# EAGLE library part SF2159E (library NewSDR)
RFM 974 MHz SAW Filter
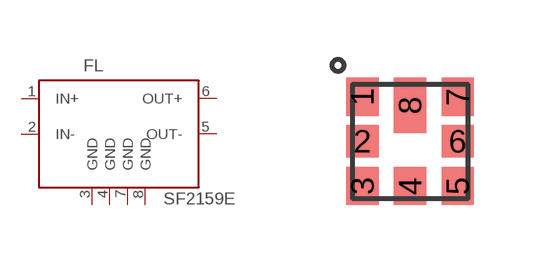
[diagram p202: symbol with the pads of SF2159E; footprint SF2159E]

Designator prefix FL

## SF2159E  [SF2159E]
1  IN+  pas
2  IN-  pas
3  GND  pwr
4  GND  pwr
5  OUT-  pas
6  OUT+  pas
7  GND  pwr
8  GND  pwr

## Footprint SF2159E (pad centres in mm)
RFM 974 MHz SAW Filter
smd 0.81 x 0.96: 1 -1.19,1.115; 3 -1.19,-1.115; 4 0,-1.115; 5 1.19,-1.115; 7 1.19,1.115
smd 0.81 x 0.81: 2 -1.19,0; 6 1.19,0
smd 0.81 x 1.39: 8 0,0.9